# Altium footprint library S7CAS_LIB2023.PcbLib: 100 footprints (part 7 of 7)
Each footprint in its own frame and in the unit in brackets; x right, y up, seen from the top. Pads: shape width x height; smd on the part's side, far side on the other; paste and mask are expansions set on the pad; w line width, h text height; cw(c..) or ccw(c..) is an arc to the next point about the centre after c.
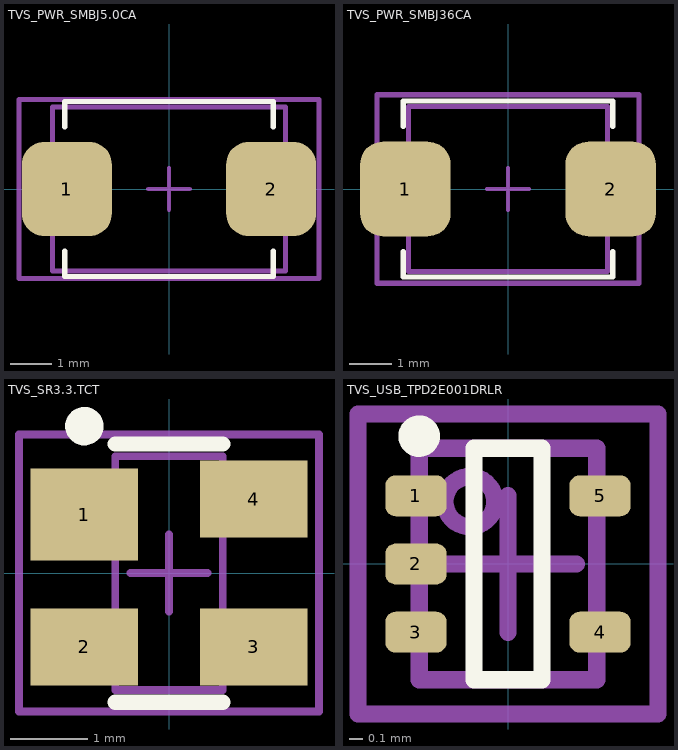
[diagram p6: the footprints below, top view; thin cyan lines are the x and y axes]

## TVS_PWR_SMBJ5.0CA [mm]
pads (2):
  rrect50% 2.16x2.26 smd paste-0.025 mask+0.07: 1(-2.45,0) 2(2.45,0)
Top Overlay:
  lines w0.127: -2.5,-1.493 -2.5,-2.1 2.5,-2.1 2.5,-1.493 ; -2.5,1.493 -2.5,2.1 2.5,2.1 2.5,1.493
Mechanical 1:
  lines w0.127: -2.795,-1.97 -2.795,1.97 2.795,1.97 2.795,-1.97 -2.795,-1.97
Mechanical 15:
  lines w0.1: -0.5,0 0.5,0 ; 0,-0.5 0,0.5
  lines w0.127: -3.6,-2.15 -3.6,2.15 3.6,2.15 3.6,-2.15 -3.6,-2.15
3D body "DIOM4436X26N.step": height 2.61, standoff 0, extent -2.595,-1.97 2.595,1.97

## TVS_PWR_SMBJ36CA [mm]
pads (2):
  rrect50% 2.16x2.26 smd paste+0 mask+0.102: 1(-2.45,0) 2(2.45,0)
Top Overlay:
  lines w0.127: -2.5,-1.493 -2.5,-2.1 2.5,-2.1 2.5,-1.493 ; -2.5,1.493 -2.5,2.1 2.5,2.1 2.5,1.493
Mechanical 1:
  lines w0.127: -2.375,-1.97 2.375,-1.97 2.375,1.97 -2.375,1.97 -2.375,-1.97
Mechanical 15:
  lines w0.1: -0.5,0 0.5,0 ; 0,-0.5 0,0.5
  lines w0.127: -3.125,-2.25 3.125,-2.25 3.125,2.25 -3.125,2.25 -3.125,-2.25
3D body "DIOM4436X26N.step": height 2.61, standoff 0, extent -2.595,-1.97 2.595,1.97

## TVS_SR3.3.TCT [mm] "SOT143, 4-Leads, Body 3,0x2,6mm (max), Pitch 1,92mm, IPC Medium Density"
height 1.22
pads (4):
  rect 1.4x1.2 smd: 1(-1.1,0.76)
  rect 1.4x1 smd: 2(-1.1,-0.96) 3(1.1,-0.96) 4(1.1,0.96)
Top Overlay:
  circle w0.25: c-1.1,1.91 r0.125
  lines w0.2: -0.7,-1.678 0.7,-1.678 ; -0.7,1.678 0.7,1.678
Mechanical 13:
  lines w0.1: -0.7,-1.52 -0.7,1.52 0.7,1.52 0.7,-1.52 -0.7,-1.52
Mechanical 15:
  lines w0.1: -0.5,0 0.5,0 ; 0,-0.5 0,0.5 ; -1.95,-1.8 -1.95,1.8 1.95,1.8 1.95,-1.8 -1.95,-1.8
3D body "User Library-SOT143-1.step": height 1.22, standoff 0, extent -1.143,-1.425 1.22,1.475

## TVS_USB_TPD2E001DRLR [mm]
pads (5):
  rrect50% 0.45x0.3 smd paste-0.025 mask+0.05: 1(-0.675,0.5) 2(-0.675,0) 3(-0.675,-0.5) 4(0.675,-0.5) 5(0.675,0.5)
Top Overlay:
  circle w0.152: c-0.651,0.938 r0.076
  lines w0.127: -0.25,-0.85 0.25,-0.85 0.25,0.85 -0.25,0.85 -0.25,-0.85
Mechanical 1:
  circle w0.127: c-0.279,0.457 r0.183
  lines w0.127: -0.65,-0.85 -0.65,0.85 0.65,0.85 0.65,-0.85 -0.65,-0.85
Mechanical 15:
  lines w0.127: -0.5,0 0.5,0 ; 0,-0.5 0,0.5 ; -1.1,-1.1 -1.1,1.1 1.1,1.1 1.1,-1.1 -1.1,-1.1
3D body "User Library-sot-553.STEP": height 0.49, standoff -0.01, extent -0.8,-0.8 0.8,0.8